# EAGLE library part W6300 (library ds_ic_peripherals)
W6300 is a WIZnet 10/100 TOE ethernet chip that combines the high-speed ethernet performance with Dual IPv4/v6 Hardware stack. To support ethernet performance up to 90Mbps and above, it supports 150MHz system clock and QSPI interface(including 4 Data lines). W6300 supports a total SRAM size of 64KB for 8 sockets, each has 4KB TX/RX buffer by default.
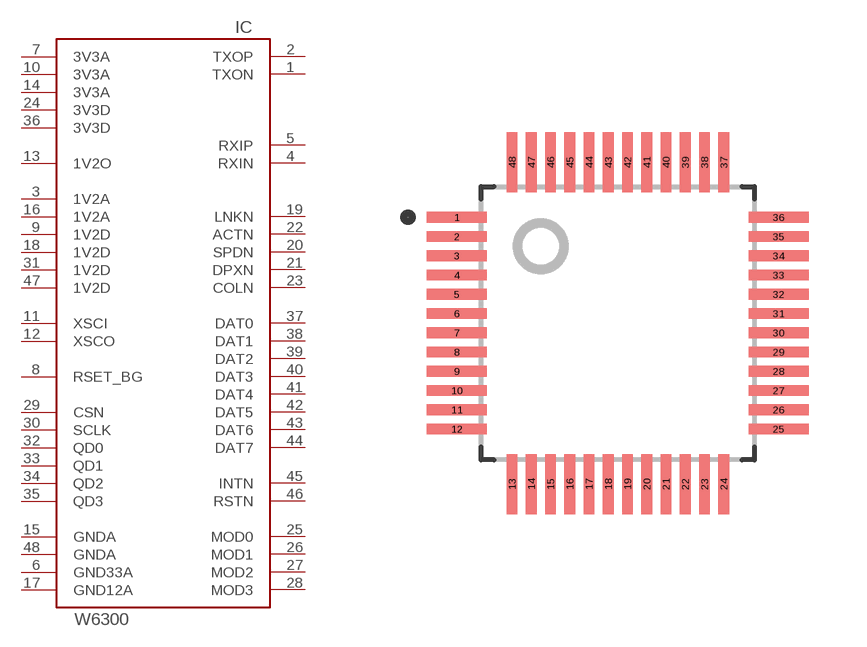
[diagram p57: symbol with the pads of LQFP48; footprint LQFP48]

Designator prefix IC

## W6300 (DATASHEET: https://docs.wiznet.io/assets/files/W6300%20DS_V100E-b7faabfc62400edb7ae942f77c424dca.pdf; MANUFACTURER: WIZnet; MPN: W6300; ROHS: YES; VALUE: W6300)  [LQFP48]
1  TXON
2  TXOP
3  1V2A
4  RXIN
5  RXIP
6  GND33A
7  3V3A
8  RSET_BG
9  1V2D
10  3V3A
11  XSCI
12  XSCO
13  1V2O
14  3V3A
15  GNDA
16  1V2A
17  GND12A
18  1V2D
19  LNKN
20  SPDN
21  DPXN
22  ACTN
23  COLN
24  3V3D
25  MOD0
26  MOD1
27  MOD2
28  MOD3
29  CSN
30  SCLK
31  1V2D
32  QD0
33  QD1
34  QD2
35  QD3
36  3V3D
37  DAT0
38  DAT1
39  DAT2
40  DAT3
41  DAT4
42  DAT5
43  DAT6
44  DAT7
45  INTN
46  RSTN
47  1V2D
48  GNDA

## Footprint LQFP48 (pad centres in mm)
smd 1.56 x 0.28: 1 -4.18,2.75; 2 -4.18,2.25; 3 -4.18,1.75; 4 -4.18,1.25; 5 -4.18,0.75; 6 -4.18,0.25; 7 -4.18,-0.25; 8 -4.18,-0.75; 9 -4.18,-1.25; 10 -4.18,-1.75; 11 -4.18,-2.25; 12 -4.18,-2.75; 25 4.18,-2.75; 26 4.18,-2.25; 27 4.18,-1.75; 28 4.18,-1.25; 29 4.18,-0.75; 30 4.18,-0.25; 31 4.18,0.25; 32 4.18,0.75; 33 4.18,1.25; 34 4.18,1.75; 35 4.18,2.25; 36 4.18,2.75
smd 0.28 x 1.56: 13 -2.75,-4.18; 14 -2.25,-4.18; 15 -1.75,-4.18; 16 -1.25,-4.18; 17 -0.75,-4.18; 18 -0.25,-4.18; 19 0.25,-4.18; 20 0.75,-4.18; 21 1.25,-4.18; 22 1.75,-4.18; 23 2.25,-4.18; 24 2.75,-4.18; 37 2.75,4.18; 38 2.25,4.18; 39 1.75,4.18; 40 1.25,4.18; 41 0.75,4.18; 42 0.25,4.18; 43 -0.25,4.18; 44 -0.75,4.18; 45 -1.25,4.18; 46 -1.75,4.18; 47 -2.25,4.18; 48 -2.75,4.18